# Altium schematic symbol library FTDI FT230XS.Schlib: 1 symbol
Pins are listed as number, name and electrical type; pins without a type are passive.

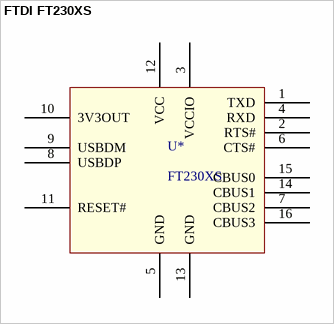
[diagram p0: symbol FTDI FT230XS]

## FTDI FT230XS
designator U*, comment FT230XS
ComponentLink1Description: LCSC - FTDI FT230XS-R; ComponentLink1URL: https://lcsc.com/product-detail/USB-ICs_FTDI-Future-Designs_FT230XS-R_FTDI-Future-Designs-FT230XS-R_C69082.html; LCSC Part #: C69082
footprint SSOP16
pins: 1 TXD, 2 RTS#, 3 VCCIO, 4 RXD, 5 GND, 6 CTS#, 7 CBUS2, 8 USBDP, 9 USBDM, 10 3V3OUT, 11 RESET#, 12 VCC, 13 GND, 14 CBUS1, 15 CBUS0, 16 CBUS3